# Altium integrated library AD Operational Amplifier.IntLib: 1114 symbols (part 6 of 13)
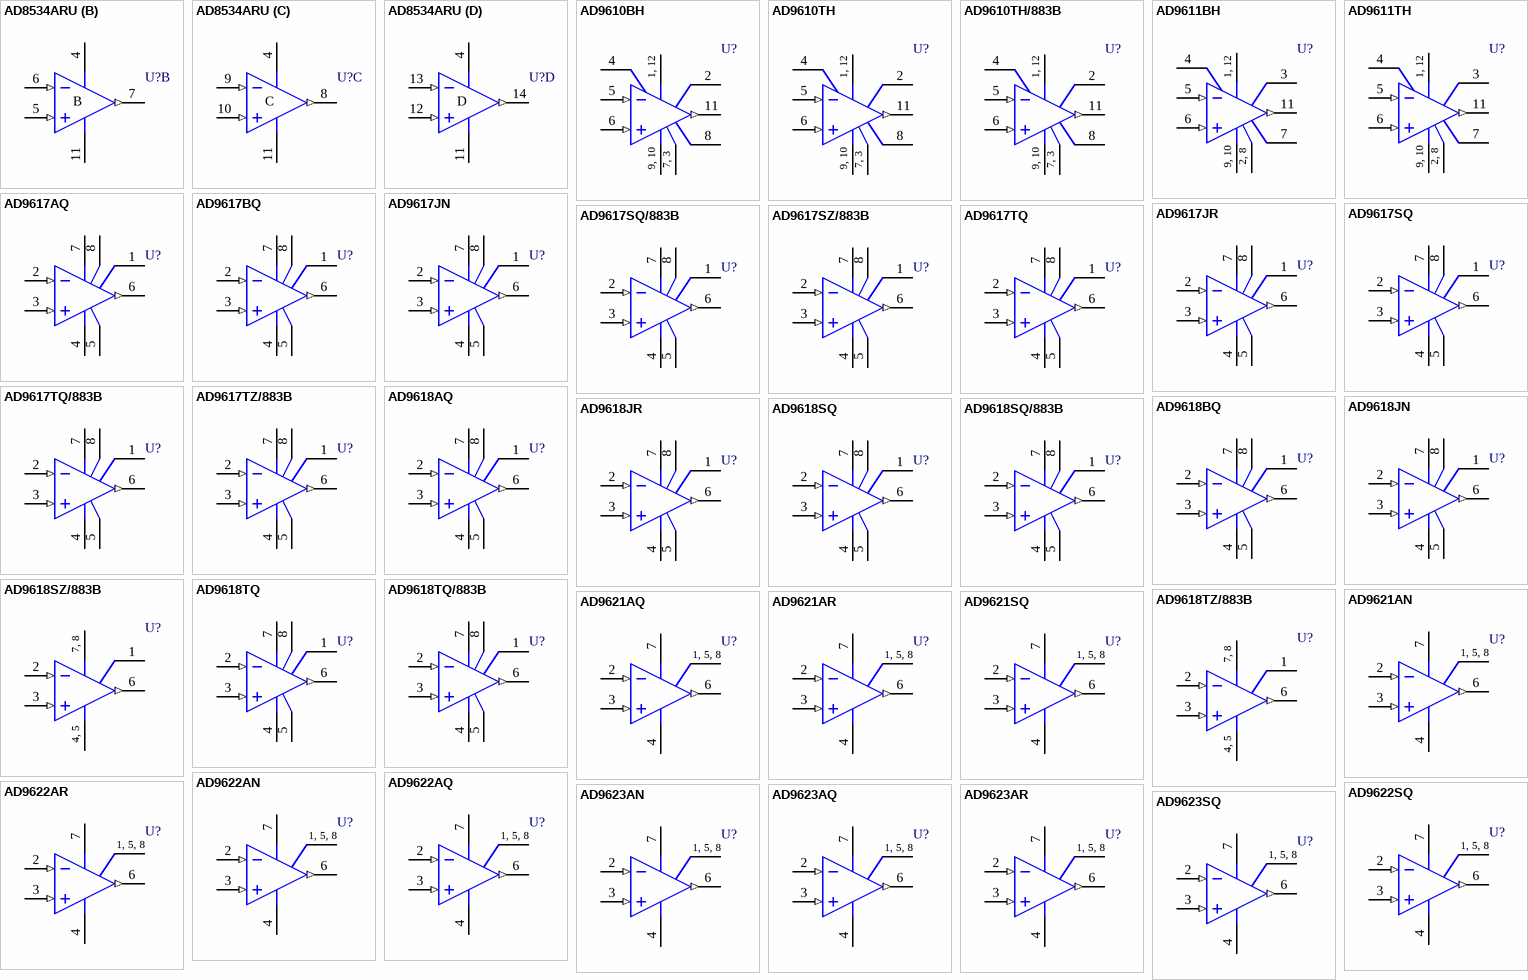
[diagram p51: symbols AD8534ARU to AD9623SQ]

## AD9617JR
designator U?
Low Distortion, Precision, Wide-Bandwidth Operational Amplifier; Revision 1: 10-Jul-2000: SIM Model Added.; Revision 2: 17-Jul-2002: Re-released for DXP Platform.; Package Information: Latest Revision: revC; Published: 8-Jun-2000; Datasheet: Designer's Reference Manual CD (REV. A 1996); Package Reference: R-8C; Publisher: Altium Limited
footprint R-8C (Small Outline; 8 Leads; Body Width 3.9 mm; Pitch 1.27 mm)
simulation model AD9617 (SUBCKT)
pins: 1 NC, 2 IN- (in), 3 IN+ (in), 4 V- (power), 5 V- (power), 6 OUT (out), 7 V+ (power), 8 V+ (power)

## AD9617SQ
designator U?
Low Distortion, Precision, Wide-Bandwidth Operational Amplifier; Revision 1: 10-Jul-2000: SIM Model Added.; Revision 2: 17-Jul-2002: Re-released for DXP Platform.; Package Information: Latest Revision: 1998; Published: 8-Jun-2000; Datasheet: Designer's Reference Manual CD (REV. A 1996); Package Reference: Q-8; Publisher: Altium Limited
footprint Q-8 (DIP; 8 Leads; Row Spacing 7.62 mm; Pitch 2.54 mm)
simulation model AD9617 (SUBCKT)
pins: 1 NC, 2 IN- (in), 3 IN+ (in), 4 V- (power), 5 V- (power), 6 OUT (out), 7 V+ (power), 8 V+ (power)

## AD9617SQ/883B
designator U?
Low Distortion, Precision, Wide-Bandwidth Operational Amplifier; Revision 1: 10-Jul-2000: SIM Model Added.; Revision 2: 17-Jul-2002: Re-released for DXP Platform.; Package Information: Latest Revision: 1998; Published: 8-Jun-2000; Datasheet: Designer's Reference Manual CD (REV. A 1996); Package Reference: Q-8; Publisher: Altium Limited
footprint Q-8 (DIP; 8 Leads; Row Spacing 7.62 mm; Pitch 2.54 mm)
simulation model AD9617 (SUBCKT)
pins: 1 NC, 2 IN- (in), 3 IN+ (in), 4 V- (power), 5 V- (power), 6 OUT (out), 7 V+ (power), 8 V+ (power)

## AD9617SZ/883B
designator U?
Low Distortion, Precision, Wide-Bandwidth Operational Amplifier; Revision 1: 10-Jul-2000: SIM Model Added.; Revision 2: 17-Jul-2002: Re-released for DXP Platform.; Published: 8-Jun-2000; Datasheet: Latest Revision: REV. A 1993; Package Reference: Z-8; Publisher: Altium Limited
footprint Z-8 (Small Outline; 8 Leads; Body Width 6.5 mm; Pitch 1.27 mm)
simulation model AD9617 (SUBCKT)
pins: 1 NC, 2 IN- (in), 3 IN+ (in), 4 V- (power), 5 V- (power), 6 OUT (out), 7 V+ (power), 8 V+ (power)

## AD9617TQ
designator U?
Low Distortion, Precision, Wide-Bandwidth Operational Amplifier; Revision 1: 10-Jul-2000: SIM Model Added.; Revision 2: 17-Jul-2002: Re-released for DXP Platform.; Package Information: Latest Revision: 1998; Published: 8-Jun-2000; Datasheet: Designer's Reference Manual CD (REV. A 1996); Package Reference: Q-8; Publisher: Altium Limited
footprint Q-8 (DIP; 8 Leads; Row Spacing 7.62 mm; Pitch 2.54 mm)
simulation model AD9617 (SUBCKT)
pins: 1 NC, 2 IN- (in), 3 IN+ (in), 4 V- (power), 5 V- (power), 6 OUT (out), 7 V+ (power), 8 V+ (power)

## AD9617TQ/883B
designator U?
Low Distortion, Precision, Wide-Bandwidth Operational Amplifier; Revision 1: 10-Jul-2000: SIM Model Added.; Revision 2: 17-Jul-2002: Re-released for DXP Platform.; Package Information: Latest Revision: 1998; Published: 8-Jun-2000; Datasheet: Designer's Reference Manual CD (REV. A 1996); Package Reference: Q-8; Publisher: Altium Limited
footprint Q-8 (DIP; 8 Leads; Row Spacing 7.62 mm; Pitch 2.54 mm)
simulation model AD9617 (SUBCKT)
pins: 1 NC, 2 IN- (in), 3 IN+ (in), 4 V- (power), 5 V- (power), 6 OUT (out), 7 V+ (power), 8 V+ (power)

## AD9617TZ/883B
designator U?
Low Distortion, Precision, Wide-Bandwidth Operational Amplifier; Revision 1: 10-Jul-2000: SIM Model Added.; Revision 2: 17-Jul-2002: Re-released for DXP Platform.; Published: 8-Jun-2000; Datasheet: Latest Revision: REV. A 1993; Package Reference: Z-8; Publisher: Altium Limited
footprint Z-8 (Small Outline; 8 Leads; Body Width 6.5 mm; Pitch 1.27 mm)
simulation model AD9617 (SUBCKT)
pins: 1 NC, 2 IN- (in), 3 IN+ (in), 4 V- (power), 5 V- (power), 6 OUT (out), 7 V+ (power), 8 V+ (power)

## AD9618AQ
designator U?
Low Distortion, Precision, Wide-Bandwidth Operational Amplifier; Revision 1: 10-Jul-2000: SIM Model Added.; Revision 2: 17-Jul-2002: Re-released for DXP Platform.; Package Information: Latest Revision: 1998; Published: 8-Jun-2000; Datasheet: Designer's Reference Manual CD (REV. A ); Package Reference: Q-8; Publisher: Altium Limited
footprint Q-8 (DIP; 8 Leads; Row Spacing 7.62 mm; Pitch 2.54 mm)
simulation model AD9618 (SUBCKT)
pins: 1 NC, 2 IN- (in), 3 IN+ (in), 4 V- (power), 5 V- (power), 6 OUT (out), 7 V+ (power), 8 V+ (power)

## AD9618BQ
designator U?
Low Distortion, Precision, Wide-Bandwidth Operational Amplifier; Revision 1: 10-Jul-2000: SIM Model Added.; Revision 2: 17-Jul-2002: Re-released for DXP Platform.; Package Information: Latest Revision: 1998; Published: 8-Jun-2000; Datasheet: Designer's Reference Manual CD (REV. A ); Package Reference: Q-8; Publisher: Altium Limited
footprint Q-8 (DIP; 8 Leads; Row Spacing 7.62 mm; Pitch 2.54 mm)
simulation model AD9618 (SUBCKT)
pins: 1 NC, 2 IN- (in), 3 IN+ (in), 4 V- (power), 5 V- (power), 6 OUT (out), 7 V+ (power), 8 V+ (power)

## AD9618JN
designator U?
Low Distortion, Precision, Wide-Bandwidth Operational Amplifier; Revision 1: 10-Jul-2000: SIM Model Added.; Revision 2: 17-Jul-2002: Re-released for DXP Platform.; Code - JEDEC: MO-001-AN; Published: 8-Jun-2000; Datasheet: Designer's Reference Manual CD (REV. A ); Package Reference: N-8_A; Publisher: Altium Limited
footprint N-8_A (DIP; 8 Leads; Row Spacing 7.62 mm; Pitch 2.54 mm)
simulation model AD9618 (SUBCKT)
pins: 1 NC, 2 IN- (in), 3 IN+ (in), 4 V- (power), 5 V- (power), 6 OUT (out), 7 V+ (power), 8 V+ (power)

## AD9618JR
designator U?
Low Distortion, Precision, Wide-Bandwidth Operational Amplifier; Revision 1: 10-Jul-2000: SIM Model Added.; Revision 2: 17-Jul-2002: Re-released for DXP Platform.; Package Information: Latest Revision: revC; Published: 8-Jun-2000; Datasheet: Designer's Reference Manual CD (REV. A ); Package Reference: R-8C; Publisher: Altium Limited
footprint R-8C (Small Outline; 8 Leads; Body Width 3.9 mm; Pitch 1.27 mm)
simulation model AD9618 (SUBCKT)
pins: 1 NC, 2 IN- (in), 3 IN+ (in), 4 V- (power), 5 V- (power), 6 OUT (out), 7 V+ (power), 8 V+ (power)

## AD9618SQ
designator U?
Low Distortion, Precision, Wide-Bandwidth Operational Amplifier; Revision 1: 10-Jul-2000: SIM Model Added.; Revision 2: 17-Jul-2002: Re-released for DXP Platform.; Package Information: Latest Revision: 1998; Published: 8-Jun-2000; Datasheet: Designer's Reference Manual CD (REV. A ); Package Reference: Q-8; Publisher: Altium Limited
footprint Q-8 (DIP; 8 Leads; Row Spacing 7.62 mm; Pitch 2.54 mm)
simulation model AD9618 (SUBCKT)
pins: 1 NC, 2 IN- (in), 3 IN+ (in), 4 V- (power), 5 V- (power), 6 OUT (out), 7 V+ (power), 8 V+ (power)

## AD9618SQ/883B
designator U?
Low Distortion, Precision, Wide-Bandwidth Operational Amplifier; Revision 1: 10-Jul-2000: SIM Model Added.; Revision 2: 17-Jul-2002: Re-released for DXP Platform.; Package Information: Latest Revision: 1998; Published: 8-Jun-2000; Datasheet: Designer's Reference Manual CD (REV. A ); Package Reference: Q-8; Publisher: Altium Limited
footprint Q-8 (DIP; 8 Leads; Row Spacing 7.62 mm; Pitch 2.54 mm)
simulation model AD9618 (SUBCKT)
pins: 1 NC, 2 IN- (in), 3 IN+ (in), 4 V- (power), 5 V- (power), 6 OUT (out), 7 V+ (power), 8 V+ (power)

## AD9618SZ/883B
designator U?
Low Distortion, Precision, Wide-Bandwidth Operational Amplifier; Revision 1: 10-Jul-2000: SIM Model Added.; Revision 2: 17-Jul-2002: Re-released for DXP Platform.; Published: 8-Jun-2000; Datasheet: Latest Revision: REV. A 1993; Package Reference: Z-8; Publisher: Altium Limited
footprint Z-8 (Small Outline; 8 Leads; Body Width 6.5 mm; Pitch 1.27 mm)
simulation model AD9618 (SUBCKT)
pins: 1 NC, 2 IN- (in), 3 IN+ (in), 4 V- (power), 5 V- (power), 6 OUT (out), 7 V+ (power), 8 V+ (power)
text: 7, 8; 4, 5

## AD9618TQ
designator U?
Low Distortion, Precision, Wide-Bandwidth Operational Amplifier; Revision 1: 10-Jul-2000: SIM Model Added.; Revision 2: 17-Jul-2002: Re-released for DXP Platform.; Package Information: Latest Revision: 1998; Published: 8-Jun-2000; Datasheet: Designer's Reference Manual CD (REV. A ); Package Reference: Q-8; Publisher: Altium Limited
footprint Q-8 (DIP; 8 Leads; Row Spacing 7.62 mm; Pitch 2.54 mm)
simulation model AD9618 (SUBCKT)
pins: 1 NC, 2 IN- (in), 3 IN+ (in), 4 V- (power), 5 V- (power), 6 OUT (out), 7 V+ (power), 8 V+ (power)

## AD9618TQ/883B
designator U?
Low Distortion, Precision, Wide-Bandwidth Operational Amplifier; Revision 1: 10-Jul-2000: SIM Model Added.; Revision 2: 17-Jul-2002: Re-released for DXP Platform.; Package Information: Latest Revision: 1998; Published: 8-Jun-2000; Datasheet: Designer's Reference Manual CD (REV. A ); Package Reference: Q-8; Publisher: Altium Limited
footprint Q-8 (DIP; 8 Leads; Row Spacing 7.62 mm; Pitch 2.54 mm)
simulation model AD9618 (SUBCKT)
pins: 1 NC, 2 IN- (in), 3 IN+ (in), 4 V- (power), 5 V- (power), 6 OUT (out), 7 V+ (power), 8 V+ (power)

## AD9618TZ/883B
designator U?
Low Distortion, Precision, Wide-Bandwidth Operational Amplifier; Revision 1: 10-Jul-2000: SIM Model Added.; Revision 2: 17-Jul-2002: Re-released for DXP Platform.; Published: 8-Jun-2000; Datasheet: Latest Revision: REV. A 1993; Package Reference: Z-8; Publisher: Altium Limited
footprint Z-8 (Small Outline; 8 Leads; Body Width 6.5 mm; Pitch 1.27 mm)
simulation model AD9618 (SUBCKT)
pins: 1 NC, 2 IN- (in), 3 IN+ (in), 4 V- (power), 5 V- (power), 6 OUT (out), 7 V+ (power), 8 V+ (power)
text: 7, 8; 4, 5

## AD9621AN
designator U?
Wideband Voltage Feedback Amplifier; Revision 1: 24-Aug-2001: SIM Model Removed.; Revision 2: 17-Jul-2002: Re-released for DXP Platform.; Package Information: Latest Revision: revA; Note: Pins 1, 5, and 8 are not connected.; Published: 8-Jun-2000; Datasheet: Latest Revision: REV. 0 1992; Package Reference: N-8; Publisher: Altium Limited
footprint N-8 (DIP; 8 Leads; Row Spacing 7.62 mm; Pitch 2.54 mm)
pins: 1 NC, 2 IN- (in), 3 IN+ (in), 4 V- (power), 5 NC, 6 OUT (out), 7 V+ (power), 8 NC
text: 1, 5, 8

## AD9621AQ
designator U?
Wideband Voltage Feedback Amplifier; Revision 1: 24-Aug-2001: SIM Model Removed.; Revision 2: 17-Jul-2002: Re-released for DXP Platform.; Package Information: Latest Revision: 1998; Note: Pins 1, 5, and 8 are not connected.; Published: 8-Jun-2000; Datasheet: Latest Revision: REV. 0 1992; Package Reference: Q-8; Publisher: Altium Limited
footprint Q-8 (DIP; 8 Leads; Row Spacing 7.62 mm; Pitch 2.54 mm)
pins: 1 NC, 2 IN- (in), 3 IN+ (in), 4 V- (power), 5 NC, 6 OUT (out), 7 V+ (power), 8 NC
text: 1, 5, 8

## AD9621AR
designator U?
Wideband Voltage Feedback Amplifier; Revision 1: 24-Aug-2001: SIM Model Removed.; Revision 2: 17-Jul-2002: Re-released for DXP Platform.; Package Information: Latest Revision: revC; Note: Pins 1, 5, and 8 are not connected.; Published: 8-Jun-2000; Datasheet: Latest Revision: REV. 0 1992; Package Reference: R-8C; Publisher: Altium Limited
footprint R-8C (Small Outline; 8 Leads; Body Width 3.9 mm; Pitch 1.27 mm)
pins: 1 NC, 2 IN- (in), 3 IN+ (in), 4 V- (power), 5 NC, 6 OUT (out), 7 V+ (power), 8 NC
text: 1, 5, 8

## AD9621SQ
designator U?
Wideband Voltage Feedback Amplifier; Revision 1: 24-Aug-2001: SIM Model Removed.; Revision 2: 17-Jul-2002: Re-released for DXP Platform.; Package Information: Latest Revision: 1998; Note: Pins 1, 5, and 8 are not connected.; Published: 8-Jun-2000; Datasheet: Latest Revision: REV. 0 1992; Package Reference: Q-8; Publisher: Altium Limited
footprint Q-8 (DIP; 8 Leads; Row Spacing 7.62 mm; Pitch 2.54 mm)
pins: 1 NC, 2 IN- (in), 3 IN+ (in), 4 V- (power), 5 NC, 6 OUT (out), 7 V+ (power), 8 NC
text: 1, 5, 8

## AD9622AN
designator U?
Wideband Voltage Feedback Amplifier; Revision 1: 24-Aug-2001: SIM Model Removed.; Revision 2: 17-Jul-2002: Re-released for DXP Platform.; Package Information: Latest Revision: 1992; Note: Pins 1, 5, and 8 are not connected.; Published: 8-Jun-2000; Datasheet: Latest Revision: REV. 0 1992; Package Reference: N-8_B; Publisher: Altium Limited
footprint N-8_B (DIP; 8 Leads; Row Spacing 7.62 mm; Pitch 2.54 mm)
pins: 1 NC, 2 IN- (in), 3 IN+ (in), 4 V- (power), 5 NC, 6 OUT (out), 7 V+ (power), 8 NC
text: 1, 5, 8

## AD9622AQ
designator U?
Wideband Voltage Feedback Amplifier; Revision 1: 24-Aug-2001: SIM Model Removed.; Revision 2: 17-Jul-2002: Re-released for DXP Platform.; Package Information: Latest Revision: 1998; Note: Pins 1, 5, and 8 are not connected.; Published: 8-Jun-2000; Datasheet: Latest Revision: REV. 0 1992; Package Reference: Q-8; Publisher: Altium Limited
footprint Q-8 (DIP; 8 Leads; Row Spacing 7.62 mm; Pitch 2.54 mm)
pins: 1 NC, 2 IN- (in), 3 IN+ (in), 4 V- (power), 5 NC, 6 OUT (out), 7 V+ (power), 8 NC
text: 1, 5, 8

## AD9622AR
designator U?
Wideband Voltage Feedback Amplifier; Revision 1: 24-Aug-2001: SIM Model Removed.; Revision 2: 17-Jul-2002: Re-released for DXP Platform.; Package Information: Latest Revision: revC; Note: Pins 1, 5, and 8 are not connected.; Published: 8-Jun-2000; Datasheet: Latest Revision: REV. 0 1992; Package Reference: R-8C; Publisher: Altium Limited
footprint R-8C (Small Outline; 8 Leads; Body Width 3.9 mm; Pitch 1.27 mm)
pins: 1 NC, 2 IN- (in), 3 IN+ (in), 4 V- (power), 5 NC, 6 OUT (out), 7 V+ (power), 8 NC
text: 1, 5, 8

## AD9622SQ
designator U?
Wideband Voltage Feedback Amplifier; Revision 1: 24-Aug-2001: SIM Model Removed.; Revision 2: 17-Jul-2002: Re-released for DXP Platform.; Package Information: Latest Revision: 1998; Note: Pins 1, 5, and 8 are not connected.; Published: 8-Jun-2000; Datasheet: Latest Revision: REV. 0 1992; Package Reference: Q-8; Publisher: Altium Limited
footprint Q-8 (DIP; 8 Leads; Row Spacing 7.62 mm; Pitch 2.54 mm)
pins: 1 NC, 2 IN- (in), 3 IN+ (in), 4 V- (power), 5 NC, 6 OUT (out), 7 V+ (power), 8 NC
text: 1, 5, 8

## AD9623AN
designator U?
Wideband Voltage Feedback Amplifier; Revision 1: 24-Aug-2001: SIM Model Removed.; Revision 2: 17-Jul-2002: Re-released for DXP Platform.; Package Information: Latest Revision: 1992; Note: Pins 1, 5, and 8 are not connected.; Published: 8-Jun-2000; Datasheet: Latest Revision: REV. 0 1992; Package Reference: N-8_B; Publisher: Altium Limited
footprint N-8_B (DIP; 8 Leads; Row Spacing 7.62 mm; Pitch 2.54 mm)
pins: 1 NC, 2 IN- (in), 3 IN+ (in), 4 V- (power), 5 NC, 6 OUT (out), 7 V+ (power), 8 NC
text: 1, 5, 8

## AD9623AQ
designator U?
Wideband Voltage Feedback Amplifier; Revision 1: 24-Aug-2001: SIM Model Removed.; Revision 2: 17-Jul-2002: Re-released for DXP Platform.; Package Information: Latest Revision: 1998; Note: Pins 1, 5, and 8 are not connected.; Published: 8-Jun-2000; Datasheet: Latest Revision: REV. 0 1992; Package Reference: Q-8; Publisher: Altium Limited
footprint Q-8 (DIP; 8 Leads; Row Spacing 7.62 mm; Pitch 2.54 mm)
pins: 1 NC, 2 IN- (in), 3 IN+ (in), 4 V- (power), 5 NC, 6 OUT (out), 7 V+ (power), 8 NC
text: 1, 5, 8

## AD9623AR
designator U?
Wideband Voltage Feedback Amplifier; Revision 1: 24-Aug-2001: SIM Model Removed.; Revision 2: 17-Jul-2002: Re-released for DXP Platform.; Package Information: Latest Revision: revC; Note: Pins 1, 5, and 8 are not connected.; Published: 8-Jun-2000; Datasheet: Latest Revision: REV. 0 1992; Package Reference: R-8C; Publisher: Altium Limited
footprint R-8C (Small Outline; 8 Leads; Body Width 3.9 mm; Pitch 1.27 mm)
pins: 1 NC, 2 IN- (in), 3 IN+ (in), 4 V- (power), 5 NC, 6 OUT (out), 7 V+ (power), 8 NC
text: 1, 5, 8

## AD9623SQ
designator U?
Wideband Voltage Feedback Amplifier; Revision 1: 24-Aug-2001: SIM Model Removed.; Revision 2: 17-Jul-2002: Re-released for DXP Platform.; Package Information: Latest Revision: 1998; Note: Pins 1, 5, and 8 are not connected.; Published: 8-Jun-2000; Datasheet: Latest Revision: REV. 0 1992; Package Reference: Q-8; Publisher: Altium Limited
footprint Q-8 (DIP; 8 Leads; Row Spacing 7.62 mm; Pitch 2.54 mm)
pins: 1 NC, 2 IN- (in), 3 IN+ (in), 4 V- (power), 5 NC, 6 OUT (out), 7 V+ (power), 8 NC
text: 1, 5, 8

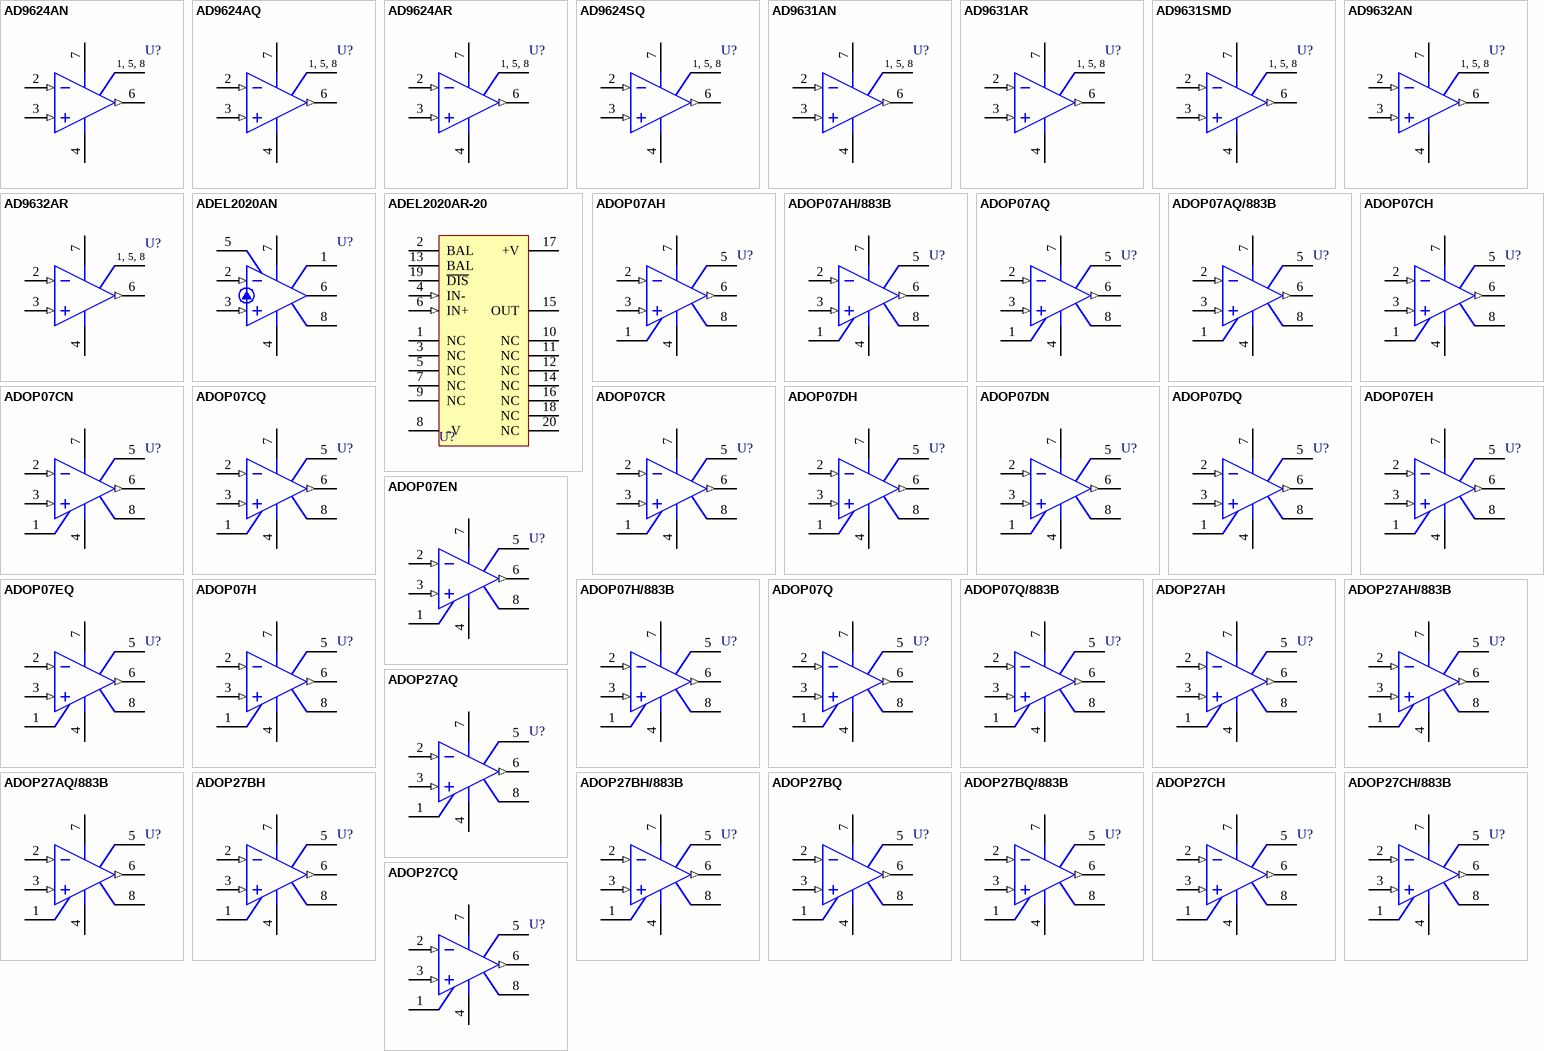
[diagram p17: symbols AD9624AN to ADOP27CQ]

## AD9624AN
designator U?
Wideband Voltage Feedback Amplifier; Revision 1: 24-Aug-2001: SIM Model Removed.; Revision 2: 17-Jul-2002: Re-released for DXP Platform.; Package Information: Latest Revision: 1992; Note: Pins 1, 5, and 8 are not connected.; Published: 8-Jun-2000; Datasheet: Latest Revision: REV. 0 1992; Package Reference: N-8_B; Publisher: Altium Limited
footprint N-8_B (DIP; 8 Leads; Row Spacing 7.62 mm; Pitch 2.54 mm)
pins: 1 NC, 2 IN- (in), 3 IN+ (in), 4 V- (power), 5 NC, 6 OUT (out), 7 V+ (power), 8 NC
text: 1, 5, 8

## AD9624AQ
designator U?
Wideband Voltage Feedback Amplifier; Revision 1: 24-Aug-2001: SIM Model Removed.; Revision 2: 17-Jul-2002: Re-released for DXP Platform.; Package Information: Latest Revision: 1998; Note: Pins 1, 5, and 8 are not connected.; Published: 8-Jun-2000; Datasheet: Latest Revision: REV. 0 1992; Package Reference: Q-8; Publisher: Altium Limited
footprint Q-8 (DIP; 8 Leads; Row Spacing 7.62 mm; Pitch 2.54 mm)
pins: 1 NC, 2 IN- (in), 3 IN+ (in), 4 V- (power), 5 NC, 6 OUT (out), 7 V+ (power), 8 NC
text: 1, 5, 8

## AD9624AR
designator U?
Wideband Voltage Feedback Amplifier; Revision 1: 24-Aug-2001: SIM Model Removed.; Revision 2: 17-Jul-2002: Re-released for DXP Platform.; Package Information: Latest Revision: revC; Note: Pins 1, 5, and 8 are not connected.; Published: 8-Jun-2000; Datasheet: Latest Revision: REV. 0 1992; Package Reference: R-8C; Publisher: Altium Limited
footprint R-8C (Small Outline; 8 Leads; Body Width 3.9 mm; Pitch 1.27 mm)
pins: 1 NC, 2 IN- (in), 3 IN+ (in), 4 V- (power), 5 NC, 6 OUT (out), 7 V+ (power), 8 NC
text: 1, 5, 8

## AD9624SQ
designator U?
Wideband Voltage Feedback Amplifier; Revision 1: 24-Aug-2001: SIM Model Removed.; Revision 2: 17-Jul-2002: Re-released for DXP Platform.; Package Information: Latest Revision: 1998; Note: Pins 1, 5, and 8 are not connected.; Published: 8-Jun-2000; Datasheet: Latest Revision: REV. 0 1992; Package Reference: Q-8; Publisher: Altium Limited
footprint Q-8 (DIP; 8 Leads; Row Spacing 7.62 mm; Pitch 2.54 mm)
pins: 1 NC, 2 IN- (in), 3 IN+ (in), 4 V- (power), 5 NC, 6 OUT (out), 7 V+ (power), 8 NC
text: 1, 5, 8

## AD9631AN
designator U?
Ultra-Low Distortion, Wide-Bandwidth Voltage Feedback Operational Amplifier; Revision 1: 10-Jul-2000: SIM Model Added.; Revision 2: 17-Jul-2002: Re-released for DXP Platform.; Note: Pins 1, 5, and 8 are not connected.; Code - JEDEC: MO-001-AN; Published: 8-Jun-2000; Datasheet: Designer's Reference Manual CD (REV. A); Package Reference: N-8_A; Publisher: Altium Limited
footprint N-8_A (DIP; 8 Leads; Row Spacing 7.62 mm; Pitch 2.54 mm)
simulation model AD9631AN (SUBCKT)
pins: 1 NC, 2 IN- (in), 3 IN+ (in), 4 V- (power), 5 NC, 6 OUT (out), 7 V+ (power), 8 NC
text: 1, 5, 8

## AD9631AR
designator U?
Ultra-Low Distortion, Wide-Bandwidth Voltage Feedback Operational Amplifier; Package Information: Latest Revision: 1998; Note: Pins 1, 5, and 8 are not connected.; Published: 8-Jun-2000; Revision: 17-Jul-2002: Re-released for DXP Platform.; Datasheet: Designer's Reference Manual CD (REV. A); Package Reference: R-8D; Publisher: Altium Limited
footprint R-8D (Small Outline; 8 Leads; Body Width 3.9 mm; Pitch 1.27 mm)
pins: 1 NC, 2 IN- (in), 3 IN+ (in), 4 V- (power), 5 NC, 6 OUT (out), 7 V+ (power), 8 NC
text: 1, 5, 8

## AD9631SMD
designator U?
Ultra-Low Distortion, Wide-Bandwidth Voltage Feedback Operational Amplifier; Package Information: Latest Revision: 1998; Note: Pins 1, 5, and 8 are not connected.; Published: 8-Jun-2000; Revision: 17-Jul-2002: Re-released for DXP Platform.; Datasheet: Designer's Reference Manual CD (REV. A); Package Reference: Q-8; Publisher: Altium Limited
footprint Q-8 (DIP; 8 Leads; Row Spacing 7.62 mm; Pitch 2.54 mm)
pins: 1 NC, 2 IN- (in), 3 IN+ (in), 4 V- (power), 5 NC, 6 OUT (out), 7 V+ (power), 8 NC
text: 1, 5, 8

## AD9632AN
designator U?
Ultra-Low Distortion, Wide-Bandwidth Voltage Feedback Operational Amplifier; Revision 1: 10-Jul-2000: SIM Model Added.; Revision 2: 17-Jul-2002: Re-released for DXP Platform.; Note: Pins 1, 5, and 8 are not connected.; Code - JEDEC: MO-001-AN; Published: 8-Jun-2000; Datasheet: Designer's Reference Manual CD (REV. A); Package Reference: N-8_A; Publisher: Altium Limited
footprint N-8_A (DIP; 8 Leads; Row Spacing 7.62 mm; Pitch 2.54 mm)
simulation model AD9632AN (SUBCKT)
pins: 1 NC, 2 IN- (in), 3 IN+ (in), 4 V- (power), 5 NC, 6 OUT (out), 7 V+ (power), 8 NC
text: 1, 5, 8

## AD9632AR
designator U?
Ultra-Low Distortion, Wide-Bandwidth Voltage Feedback Operational Amplifier; Package Information: Latest Revision: 1998; Note: Pins 1, 5, and 8 are not connected.; Published: 8-Jun-2000; Revision: 17-Jul-2002: Re-released for DXP Platform.; Datasheet: Designer's Reference Manual CD (REV. A); Package Reference: R-8D; Publisher: Altium Limited
footprint R-8D (Small Outline; 8 Leads; Body Width 3.9 mm; Pitch 1.27 mm)
pins: 1 NC, 2 IN- (in), 3 IN+ (in), 4 V- (power), 5 NC, 6 OUT (out), 7 V+ (power), 8 NC
text: 1, 5, 8

## ADEL2020AN
designator U?
Current Feedback Operational Amplifier; Package Information: Latest Revision: revA; Published: 8-Jun-2000; Revision: 17-Jul-2002: Re-released for DXP Platform.; Datasheet: Designer's Reference Manual CD (REV. A); Package Reference: N-8; Publisher: Altium Limited
footprint N-8 (DIP; 8 Leads; Row Spacing 7.62 mm; Pitch 2.54 mm)
pins: 1 BAL, 2 IN- (in), 3 IN+ (in), 4 V- (power), 5 BAL, 6 OUT (hiz), 7 V+ (power), 8 ~{DIS}

## ADEL2020AR-20
designator U?
Current Feedback Operational Amplifier; Note: Pins 1, 3, 5, 7, 9, 10, 11, 12, 14, 16, 18 and 20 are not connected.; Code - JEDEC: MS-013-AC; Code - IPC: SO20W; Published: 8-Jun-2000; Revision: 17-Jul-2002: Re-released for DXP Platform.; Datasheet: Designer's Reference Manual CD (REV. A); Package Reference: R-20; Publisher: Altium Limited
footprint R-20 (Small Outline; 20 Leads; Body Width 7.5 mm; Pitch 1.27 mm)
pins: 1 NC, 2 BAL, 3 NC, 4 IN- (in), 5 NC, 6 IN+ (in), 7 NC, 8 -V (power), 9 NC, 10 NC, 11 NC, 12 NC, 13 BAL, 14 NC, 15 OUT (hiz), 16 NC, 17 +V (power), 18 NC, 19 ~{DIS}, 20 NC

## ADOP07AH
designator U?
Ultra-Low Offset Voltage Operational Amplifier; Package Information: Latest Revision: 1990; Note: Pin 5 is not connected.; Published: 8-Jun-2000; Revision: 17-Jul-2002: Re-released for DXP Platform.; Datasheet: Amplifier Reference Manual (1992); Package Reference: H-08A; Publisher: Altium Limited
footprint H-08A (Can; 8 Leads; Pin Circle Dia. 5.08 mm; Lead Dia. 0.53 mm (max))
pins: 1 OS NULL, 2 IN- (in), 3 IN+ (in), 4 V- (power), 5 NC, 6 OUT (out), 7 V+ (power), 8 OS NULL

## ADOP07AH/883B
designator U?
Ultra-Low Offset Voltage Operational Amplifier; Package Information: Latest Revision: 1993; Note: Pin 5 is not connected.; Published: 8-Jun-2000; Revision: 17-Jul-2002: Re-released for DXP Platform.; Datasheet: Latest Revision: REV. C 1993; Package Reference: H-08A_D; Publisher: Altium Limited
footprint H-08A_D (Can; 8 Leads; Pin Circle Dia. 5.08 mm; Lead Dia. 0.48 mm (max))
pins: 1 OS NULL, 2 IN- (in), 3 IN+ (in), 4 V- (power), 5 NC, 6 OUT (out), 7 V+ (power), 8 OS NULL

## ADOP07AQ
designator U?
Ultra-Low Offset Voltage Operational Amplifier; Package Information: Latest Revision: 1998; Note: Pin 5 is not connected.; Published: 8-Jun-2000; Revision: 17-Jul-2002: Re-released for DXP Platform.; Datasheet: Amplifier Reference Manual (1992); Package Reference: Q-8; Publisher: Altium Limited
footprint Q-8 (DIP; 8 Leads; Row Spacing 7.62 mm; Pitch 2.54 mm)
pins: 1 NULL1, 2 IN- (in), 3 IN+ (in), 4 V- (power), 5 NC, 6 OUT (out), 7 V+ (power), 8 NULL2

## ADOP07AQ/883B
designator U?
Ultra-Low Offset Voltage Operational Amplifier; Note: Pin 5 is not connected.; Published: 8-Jun-2000; Revision: 17-Jul-2002: Re-released for DXP Platform.; Datasheet: Latest Revision: REV. C 1993; Package Reference: Q-8_B; Publisher: Altium Limited
footprint Q-8_B (DIP; 8 Leads; Row Spacing 7.62 mm; Pitch 2.54 mm)
pins: 1 NULL1, 2 IN- (in), 3 IN+ (in), 4 V- (power), 5 NC, 6 OUT (out), 7 V+ (power), 8 NULL2

## ADOP07CH
designator U?
Ultra-Low Offset Voltage Operational Amplifier; Package Information: Latest Revision: 1990; Note: Pin 5 is not connected.; Published: 8-Jun-2000; Revision: 17-Jul-2002: Re-released for DXP Platform.; Datasheet: Amplifier Reference Manual (1992); Package Reference: H-08A; Publisher: Altium Limited
footprint H-08A (Can; 8 Leads; Pin Circle Dia. 5.08 mm; Lead Dia. 0.53 mm (max))
pins: 1 OS NULL, 2 IN- (in), 3 IN+ (in), 4 V- (power), 5 NC, 6 OUT (out), 7 V+ (power), 8 OS NULL

## ADOP07CN
designator U?
Ultra-Low Offset Voltage Operational Amplifier; Note: Pin 5 is not connected.; Code - JEDEC: MO-001-AN; Published: 8-Jun-2000; Revision: 17-Jul-2002: Re-released for DXP Platform.; Datasheet: Amplifier Reference Manual (1992); Package Reference: N-8_A; Publisher: Altium Limited
footprint N-8_A (DIP; 8 Leads; Row Spacing 7.62 mm; Pitch 2.54 mm)
pins: 1 NULL1, 2 IN- (in), 3 IN+ (in), 4 V- (power), 5 NC, 6 OUT (out), 7 V+ (power), 8 NULL2

## ADOP07CQ
designator U?
Ultra-Low Offset Voltage Operational Amplifier; Package Information: Latest Revision: 1998; Note: Pin 5 is not connected.; Published: 8-Jun-2000; Revision: 17-Jul-2002: Re-released for DXP Platform.; Datasheet: Amplifier Reference Manual (1992); Package Reference: Q-8; Publisher: Altium Limited
footprint Q-8 (DIP; 8 Leads; Row Spacing 7.62 mm; Pitch 2.54 mm)
pins: 1 NULL1, 2 IN- (in), 3 IN+ (in), 4 V- (power), 5 NC, 6 OUT (out), 7 V+ (power), 8 NULL2

## ADOP07CR
designator U?
Ultra-Low Offset Voltage Operational Amplifier; Note: Pin 5 is not connected.; Code - JEDEC: MS-012-AA; Code - IPC: SO8; Published: 8-Jun-2000; Revision: 17-Jul-2002: Re-released for DXP Platform.; Datasheet: Amplifier Reference Manual (1992); Package Reference: R-8; Publisher: Altium Limited
footprint R-8 (Small Outline; 8 Leads; Body Width 3.9 mm; Pitch 1.27 mm)
pins: 1 NULL1, 2 IN- (in), 3 IN+ (in), 4 V- (power), 5 NC, 6 OUT (out), 7 V+ (power), 8 NULL2

## ADOP07DH
designator U?
Ultra-Low Offset Voltage Operational Amplifier; Package Information: Latest Revision: 1990; Note: Pin 5 is not connected.; Published: 8-Jun-2000; Revision: 17-Jul-2002: Re-released for DXP Platform.; Datasheet: Amplifier Reference Manual (1992); Package Reference: H-08A; Publisher: Altium Limited
footprint H-08A (Can; 8 Leads; Pin Circle Dia. 5.08 mm; Lead Dia. 0.53 mm (max))
pins: 1 OS NULL, 2 IN- (in), 3 IN+ (in), 4 V- (power), 5 NC, 6 OUT (out), 7 V+ (power), 8 OS NULL

## ADOP07DN
designator U?
Ultra-Low Offset Voltage Operational Amplifier; Note: Pin 5 is not connected.; Code - JEDEC: MO-001-AN; Published: 8-Jun-2000; Revision: 17-Jul-2002: Re-released for DXP Platform.; Datasheet: Amplifier Reference Manual (1992); Package Reference: N-8_A; Publisher: Altium Limited
footprint N-8_A (DIP; 8 Leads; Row Spacing 7.62 mm; Pitch 2.54 mm)
pins: 1 NULL1, 2 IN- (in), 3 IN+ (in), 4 V- (power), 5 NC, 6 OUT (out), 7 V+ (power), 8 NULL2

## ADOP07DQ
designator U?
Ultra-Low Offset Voltage Operational Amplifier; Package Information: Latest Revision: 1998; Note: Pin 5 is not connected.; Published: 8-Jun-2000; Revision: 17-Jul-2002: Re-released for DXP Platform.; Datasheet: Amplifier Reference Manual (1992); Package Reference: Q-8; Publisher: Altium Limited
footprint Q-8 (DIP; 8 Leads; Row Spacing 7.62 mm; Pitch 2.54 mm)
pins: 1 NULL1, 2 IN- (in), 3 IN+ (in), 4 V- (power), 5 NC, 6 OUT (out), 7 V+ (power), 8 NULL2

## ADOP07EH
designator U?
Ultra-Low Offset Voltage Operational Amplifier; Package Information: Latest Revision: 1990; Note: Pin 5 is not connected.; Published: 8-Jun-2000; Revision: 17-Jul-2002: Re-released for DXP Platform.; Datasheet: Amplifier Reference Manual (1992); Package Reference: H-08A; Publisher: Altium Limited
footprint H-08A (Can; 8 Leads; Pin Circle Dia. 5.08 mm; Lead Dia. 0.53 mm (max))
pins: 1 OS NULL, 2 IN- (in), 3 IN+ (in), 4 V- (power), 5 NC, 6 OUT (out), 7 V+ (power), 8 OS NULL

## ADOP07EN
designator U?
Ultra-Low Offset Voltage Operational Amplifier; Note: Pin 5 is not connected.; Code - JEDEC: MO-001-AN; Published: 8-Jun-2000; Revision: 17-Jul-2002: Re-released for DXP Platform.; Datasheet: Amplifier Reference Manual (1992); Package Reference: N-8_A; Publisher: Altium Limited
footprint N-8_A (DIP; 8 Leads; Row Spacing 7.62 mm; Pitch 2.54 mm)
pins: 1 NULL1, 2 IN- (in), 3 IN+ (in), 4 V- (power), 5 NC, 6 OUT (out), 7 V+ (power), 8 NULL2

## ADOP07EQ
designator U?
Ultra-Low Offset Voltage Operational Amplifier; Package Information: Latest Revision: 1998; Note: Pin 5 is not connected.; Published: 8-Jun-2000; Revision: 17-Jul-2002: Re-released for DXP Platform.; Datasheet: Amplifier Reference Manual (1992); Package Reference: Q-8; Publisher: Altium Limited
footprint Q-8 (DIP; 8 Leads; Row Spacing 7.62 mm; Pitch 2.54 mm)
pins: 1 NULL1, 2 IN- (in), 3 IN+ (in), 4 V- (power), 5 NC, 6 OUT (out), 7 V+ (power), 8 NULL2

## ADOP07H
designator U?
Ultra-Low Offset Voltage Operational Amplifier; Package Information: Latest Revision: 1990; Note: Pin 5 is not connected.; Published: 8-Jun-2000; Revision: 17-Jul-2002: Re-released for DXP Platform.; Datasheet: Amplifier Reference Manual (1992); Package Reference: H-08A; Publisher: Altium Limited
footprint H-08A (Can; 8 Leads; Pin Circle Dia. 5.08 mm; Lead Dia. 0.53 mm (max))
pins: 1 OS NULL, 2 IN- (in), 3 IN+ (in), 4 V- (power), 5 NC, 6 OUT (out), 7 V+ (power), 8 OS NULL

## ADOP07H/883B
designator U?
Ultra-Low Offset Voltage Operational Amplifier; Package Information: Latest Revision: 1993; Note: Pin 5 is not connected.; Published: 8-Jun-2000; Revision: 17-Jul-2002: Re-released for DXP Platform.; Datasheet: Latest Revision: REV. C 1993; Package Reference: H-08A_D; Publisher: Altium Limited
footprint H-08A_D (Can; 8 Leads; Pin Circle Dia. 5.08 mm; Lead Dia. 0.48 mm (max))
pins: 1 OS NULL, 2 IN- (in), 3 IN+ (in), 4 V- (power), 5 NC, 6 OUT (out), 7 V+ (power), 8 OS NULL

## ADOP07Q
designator U?
Ultra-Low Offset Voltage Operational Amplifier; Package Information: Latest Revision: 1998; Note: Pin 5 is not connected.; Published: 8-Jun-2000; Revision: 17-Jul-2002: Re-released for DXP Platform.; Datasheet: Amplifier Reference Manual (1992); Package Reference: Q-8; Publisher: Altium Limited
footprint Q-8 (DIP; 8 Leads; Row Spacing 7.62 mm; Pitch 2.54 mm)
pins: 1 NULL1, 2 IN- (in), 3 IN+ (in), 4 V- (power), 5 NC, 6 OUT (out), 7 V+ (power), 8 NULL2

## ADOP07Q/883B
designator U?
Ultra-Low Offset Voltage Operational Amplifier; Note: Pin 5 is not connected.; Published: 8-Jun-2000; Revision: 17-Jul-2002: Re-released for DXP Platform.; Datasheet: Latest Revision: REV. C 1993; Package Reference: Q-8_B; Publisher: Altium Limited
footprint Q-8_B (DIP; 8 Leads; Row Spacing 7.62 mm; Pitch 2.54 mm)
pins: 1 NULL1, 2 IN- (in), 3 IN+ (in), 4 V- (power), 5 NC, 6 OUT (out), 7 V+ (power), 8 NULL2

## ADOP27AH
designator U?
Ultra-Low Noise, Precision Operational Amplifier; Package Information: Latest Revision: 1990; Note: Pin 5 is not connected; Pin 4 connected to case.; Published: 8-Jun-2000; Revision: 17-Jul-2002: Re-released for DXP Platform.; Datasheet: Amplifier Reference Manual (1992); Package Reference: H-08A; Publisher: Altium Limited
footprint H-08A (Can; 8 Leads; Pin Circle Dia. 5.08 mm; Lead Dia. 0.53 mm (max))
pins: 1 OS NULL, 2 IN- (in), 3 IN+ (in), 4 V- (power), 5 NC, 6 OUT (out), 7 V+ (power), 8 OS NULL

## ADOP27AH/883B
designator U?
Ultra-Low Noise, Precision Operational Amplifier; Package Information: Latest Revision: 1993; Note: Pin 5 is not connected; Pin 4 connected to case.; Published: 8-Jun-2000; Revision: 17-Jul-2002: Re-released for DXP Platform.; Datasheet: Latest Revision: REV. C 1993; Package Reference: H-08A_D; Publisher: Altium Limited
footprint H-08A_D (Can; 8 Leads; Pin Circle Dia. 5.08 mm; Lead Dia. 0.48 mm (max))
pins: 1 OS NULL, 2 IN- (in), 3 IN+ (in), 4 V- (power), 5 NC, 6 OUT (out), 7 V+ (power), 8 OS NULL

## ADOP27AQ
designator U?
Ultra-Low Noise, Precision Operational Amplifier; Package Information: Latest Revision: 1998; Note: Pin 5 is not connected.; Published: 8-Jun-2000; Revision: 17-Jul-2002: Re-released for DXP Platform.; Datasheet: Amplifier Reference Manual (1992); Package Reference: Q-8; Publisher: Altium Limited
footprint Q-8 (DIP; 8 Leads; Row Spacing 7.62 mm; Pitch 2.54 mm)
pins: 1 NULL1, 2 IN- (in), 3 IN+ (in), 4 V- (power), 5 NC, 6 OUT (out), 7 V+ (power), 8 NULL2

## ADOP27AQ/883B
designator U?
Ultra-Low Noise, Precision Operational Amplifier; Note: Pin 5 is not connected.; Published: 8-Jun-2000; Revision: 17-Jul-2002: Re-released for DXP Platform.; Datasheet: Latest Revision: REV. C 1993; Package Reference: Q-8_B; Publisher: Altium Limited
footprint Q-8_B (DIP; 8 Leads; Row Spacing 7.62 mm; Pitch 2.54 mm)
pins: 1 NULL1, 2 IN- (in), 3 IN+ (in), 4 V- (power), 5 NC, 6 OUT (out), 7 V+ (power), 8 NULL2

## ADOP27BH
designator U?
Ultra-Low Noise, Precision Operational Amplifier; Package Information: Latest Revision: 1990; Note: Pin 5 is not connected; Pin 4 connected to case.; Published: 8-Jun-2000; Revision: 17-Jul-2002: Re-released for DXP Platform.; Datasheet: Amplifier Reference Manual (1992); Package Reference: H-08A; Publisher: Altium Limited
footprint H-08A (Can; 8 Leads; Pin Circle Dia. 5.08 mm; Lead Dia. 0.53 mm (max))
pins: 1 OS NULL, 2 IN- (in), 3 IN+ (in), 4 V- (power), 5 NC, 6 OUT (out), 7 V+ (power), 8 OS NULL

## ADOP27BH/883B
designator U?
Ultra-Low Noise, Precision Operational Amplifier; Package Information: Latest Revision: 1993; Note: Pin 5 is not connected; Pin 4 connected to case.; Published: 8-Jun-2000; Revision: 17-Jul-2002: Re-released for DXP Platform.; Datasheet: Latest Revision: REV. C 1993; Package Reference: H-08A_D; Publisher: Altium Limited
footprint H-08A_D (Can; 8 Leads; Pin Circle Dia. 5.08 mm; Lead Dia. 0.48 mm (max))
pins: 1 OS NULL, 2 IN- (in), 3 IN+ (in), 4 V- (power), 5 NC, 6 OUT (out), 7 V+ (power), 8 OS NULL

## ADOP27BQ
designator U?
Ultra-Low Noise, Precision Operational Amplifier; Package Information: Latest Revision: 1998; Note: Pin 5 is not connected.; Published: 8-Jun-2000; Revision: 17-Jul-2002: Re-released for DXP Platform.; Datasheet: Amplifier Reference Manual (1992); Package Reference: Q-8; Publisher: Altium Limited
footprint Q-8 (DIP; 8 Leads; Row Spacing 7.62 mm; Pitch 2.54 mm)
pins: 1 NULL1, 2 IN- (in), 3 IN+ (in), 4 V- (power), 5 NC, 6 OUT (out), 7 V+ (power), 8 NULL2

## ADOP27BQ/883B
designator U?
Ultra-Low Noise, Precision Operational Amplifier; Note: Pin 5 is not connected.; Published: 8-Jun-2000; Revision: 17-Jul-2002: Re-released for DXP Platform.; Datasheet: Latest Revision: REV. C 1993; Package Reference: Q-8_B; Publisher: Altium Limited
footprint Q-8_B (DIP; 8 Leads; Row Spacing 7.62 mm; Pitch 2.54 mm)
pins: 1 NULL1, 2 IN- (in), 3 IN+ (in), 4 V- (power), 5 NC, 6 OUT (out), 7 V+ (power), 8 NULL2

## ADOP27CH
designator U?
Ultra-Low Noise, Precision Operational Amplifier; Package Information: Latest Revision: 1990; Note: Pin 5 is not connected; Pin 4 connected to case.; Published: 8-Jun-2000; Revision: 17-Jul-2002: Re-released for DXP Platform.; Datasheet: Amplifier Reference Manual (1992); Package Reference: H-08A; Publisher: Altium Limited
footprint H-08A (Can; 8 Leads; Pin Circle Dia. 5.08 mm; Lead Dia. 0.53 mm (max))
pins: 1 OS NULL, 2 IN- (in), 3 IN+ (in), 4 V- (power), 5 NC, 6 OUT (out), 7 V+ (power), 8 OS NULL

## ADOP27CH/883B
designator U?
Ultra-Low Noise, Precision Operational Amplifier; Package Information: Latest Revision: 1993; Note: Pin 5 is not connected; Pin 4 connected to case.; Published: 8-Jun-2000; Revision: 17-Jul-2002: Re-released for DXP Platform.; Datasheet: Latest Revision: REV. C 1993; Package Reference: H-08A_D; Publisher: Altium Limited
footprint H-08A_D (Can; 8 Leads; Pin Circle Dia. 5.08 mm; Lead Dia. 0.48 mm (max))
pins: 1 OS NULL, 2 IN- (in), 3 IN+ (in), 4 V- (power), 5 NC, 6 OUT (out), 7 V+ (power), 8 OS NULL

## ADOP27CQ
designator U?
Ultra-Low Noise, Precision Operational Amplifier; Package Information: Latest Revision: 1998; Note: Pin 5 is not connected.; Published: 8-Jun-2000; Revision: 17-Jul-2002: Re-released for DXP Platform.; Datasheet: Amplifier Reference Manual (1992); Package Reference: Q-8; Publisher: Altium Limited
footprint Q-8 (DIP; 8 Leads; Row Spacing 7.62 mm; Pitch 2.54 mm)
pins: 1 NULL1, 2 IN- (in), 3 IN+ (in), 4 V- (power), 5 NC, 6 OUT (out), 7 V+ (power), 8 NULL2

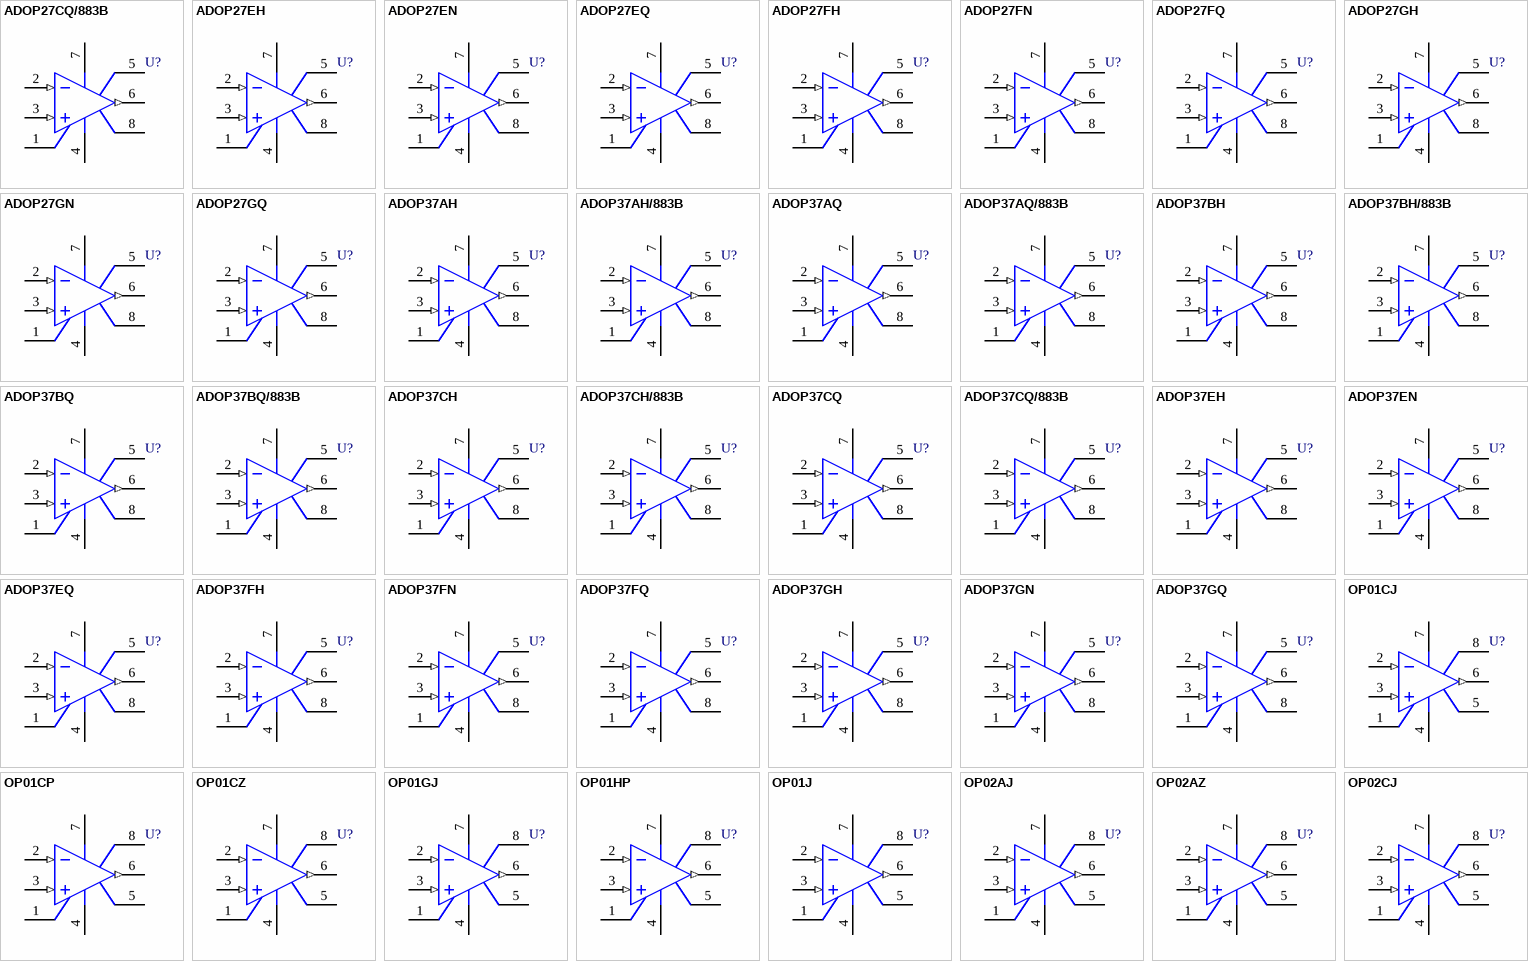
[diagram p18: symbols ADOP27CQ/883B to OP02CJ]

## ADOP27CQ/883B
designator U?
Ultra-Low Noise, Precision Operational Amplifier; Note: Pin 5 is not connected.; Published: 8-Jun-2000; Revision: 17-Jul-2002: Re-released for DXP Platform.; Datasheet: Latest Revision: REV. C 1993; Package Reference: Q-8_B; Publisher: Altium Limited
footprint Q-8_B (DIP; 8 Leads; Row Spacing 7.62 mm; Pitch 2.54 mm)
pins: 1 NULL1, 2 IN- (in), 3 IN+ (in), 4 V- (power), 5 NC, 6 OUT (out), 7 V+ (power), 8 NULL2

## ADOP27EH
designator U?
Ultra-Low Noise, Precision Operational Amplifier; Package Information: Latest Revision: 1990; Note: Pin 5 is not connected; Pin 4 connected to case.; Published: 8-Jun-2000; Revision: 17-Jul-2002: Re-released for DXP Platform.; Datasheet: Amplifier Reference Manual (1992); Package Reference: H-08A; Publisher: Altium Limited
footprint H-08A (Can; 8 Leads; Pin Circle Dia. 5.08 mm; Lead Dia. 0.53 mm (max))
pins: 1 OS NULL, 2 IN- (in), 3 IN+ (in), 4 V- (power), 5 NC, 6 OUT (out), 7 V+ (power), 8 OS NULL

## ADOP27EN
designator U?
Ultra-Low Noise, Precision Operational Amplifier; Note: Pin 5 is not connected.; Code - JEDEC: MO-001-AN; Published: 8-Jun-2000; Revision: 17-Jul-2002: Re-released for DXP Platform.; Datasheet: Amplifier Reference Manual (1992); Package Reference: N-8_A; Publisher: Altium Limited
footprint N-8_A (DIP; 8 Leads; Row Spacing 7.62 mm; Pitch 2.54 mm)
pins: 1 NULL1, 2 IN- (in), 3 IN+ (in), 4 V- (power), 5 NC, 6 OUT (out), 7 V+ (power), 8 NULL2

## ADOP27EQ
designator U?
Ultra-Low Noise, Precision Operational Amplifier; Package Information: Latest Revision: 1998; Note: Pin 5 is not connected.; Published: 8-Jun-2000; Revision: 17-Jul-2002: Re-released for DXP Platform.; Datasheet: Amplifier Reference Manual (1992); Package Reference: Q-8; Publisher: Altium Limited
footprint Q-8 (DIP; 8 Leads; Row Spacing 7.62 mm; Pitch 2.54 mm)
pins: 1 NULL1, 2 IN- (in), 3 IN+ (in), 4 V- (power), 5 NC, 6 OUT (out), 7 V+ (power), 8 NULL2

## ADOP27FH
designator U?
Ultra-Low Noise, Precision Operational Amplifier; Package Information: Latest Revision: 1990; Note: Pin 5 is not connected; Pin 4 connected to case.; Published: 8-Jun-2000; Revision: 17-Jul-2002: Re-released for DXP Platform.; Datasheet: Amplifier Reference Manual (1992); Package Reference: H-08A; Publisher: Altium Limited
footprint H-08A (Can; 8 Leads; Pin Circle Dia. 5.08 mm; Lead Dia. 0.53 mm (max))
pins: 1 OS NULL, 2 IN- (in), 3 IN+ (in), 4 V- (power), 5 NC, 6 OUT (out), 7 V+ (power), 8 OS NULL

## ADOP27FN
designator U?
Ultra-Low Noise, Precision Operational Amplifier; Note: Pin 5 is not connected.; Code - JEDEC: MO-001-AN; Published: 8-Jun-2000; Revision: 17-Jul-2002: Re-released for DXP Platform.; Datasheet: Amplifier Reference Manual (1992); Package Reference: N-8_A; Publisher: Altium Limited
footprint N-8_A (DIP; 8 Leads; Row Spacing 7.62 mm; Pitch 2.54 mm)
pins: 1 NULL1, 2 IN- (in), 3 IN+ (in), 4 V- (power), 5 NC, 6 OUT (out), 7 V+ (power), 8 NULL2

## ADOP27FQ
designator U?
Ultra-Low Noise, Precision Operational Amplifier; Package Information: Latest Revision: 1998; Note: Pin 5 is not connected.; Published: 8-Jun-2000; Revision: 17-Jul-2002: Re-released for DXP Platform.; Datasheet: Amplifier Reference Manual (1992); Package Reference: Q-8; Publisher: Altium Limited
footprint Q-8 (DIP; 8 Leads; Row Spacing 7.62 mm; Pitch 2.54 mm)
pins: 1 NULL1, 2 IN- (in), 3 IN+ (in), 4 V- (power), 5 NC, 6 OUT (out), 7 V+ (power), 8 NULL2

## ADOP27GH
designator U?
Ultra-Low Noise, Precision Operational Amplifier; Package Information: Latest Revision: 1990; Note: Pin 5 is not connected; Pin 4 connected to case.; Published: 8-Jun-2000; Revision: 17-Jul-2002: Re-released for DXP Platform.; Datasheet: Amplifier Reference Manual (1992); Package Reference: H-08A; Publisher: Altium Limited
footprint H-08A (Can; 8 Leads; Pin Circle Dia. 5.08 mm; Lead Dia. 0.53 mm (max))
pins: 1 OS NULL, 2 IN- (in), 3 IN+ (in), 4 V- (power), 5 NC, 6 OUT (out), 7 V+ (power), 8 OS NULL

## ADOP27GN
designator U?
Ultra-Low Noise, Precision Operational Amplifier; Note: Pin 5 is not connected.; Code - JEDEC: MO-001-AN; Published: 8-Jun-2000; Revision: 17-Jul-2002: Re-released for DXP Platform.; Datasheet: Amplifier Reference Manual (1992); Package Reference: N-8_A; Publisher: Altium Limited
footprint N-8_A (DIP; 8 Leads; Row Spacing 7.62 mm; Pitch 2.54 mm)
pins: 1 NULL1, 2 IN- (in), 3 IN+ (in), 4 V- (power), 5 NC, 6 OUT (out), 7 V+ (power), 8 NULL2

## ADOP27GQ
designator U?
Ultra-Low Noise, Precision Operational Amplifier; Package Information: Latest Revision: 1998; Note: Pin 5 is not connected.; Published: 8-Jun-2000; Revision: 17-Jul-2002: Re-released for DXP Platform.; Datasheet: Amplifier Reference Manual (1992); Package Reference: Q-8; Publisher: Altium Limited
footprint Q-8 (DIP; 8 Leads; Row Spacing 7.62 mm; Pitch 2.54 mm)
pins: 1 NULL1, 2 IN- (in), 3 IN+ (in), 4 V- (power), 5 NC, 6 OUT (out), 7 V+ (power), 8 NULL2

## ADOP37AH
designator U?
Ultra-Low Noise, High-Speed, Precision Operational Amplifier (Avcl >= 5); Package Information: Latest Revision: 1993; Note: Pin 5 is not connected; Pin 4 connected to case.; Published: 8-Jun-2000; Revision: 17-Jul-2002: Re-released for DXP Platform.; Datasheet: Latest Revision: REV.C 1993; Package Reference: H-08A_D; Publisher: Altium Limited
footprint H-08A_D (Can; 8 Leads; Pin Circle Dia. 5.08 mm; Lead Dia. 0.48 mm (max))
pins: 1 OS NULL, 2 IN- (in), 3 IN+ (in), 4 V- (power), 5 NC, 6 OUT (out), 7 V+ (power), 8 OS NULL

## ADOP37AH/883B
designator U?
Ultra-Low Noise, High-Speed, Precision Operational Amplifier (Avcl >= 5); Package Information: Latest Revision: 1993; Note: Pin 5 is not connected; Pin 4 connected to case.; Published: 8-Jun-2000; Revision: 17-Jul-2002: Re-released for DXP Platform.; Datasheet: Latest Revision: REV.C 1993; Package Reference: H-08A_D; Publisher: Altium Limited
footprint H-08A_D (Can; 8 Leads; Pin Circle Dia. 5.08 mm; Lead Dia. 0.48 mm (max))
pins: 1 OS NULL, 2 IN- (in), 3 IN+ (in), 4 V- (power), 5 NC, 6 OUT (out), 7 V+ (power), 8 OS NULL

## ADOP37AQ
designator U?
Ultra-Low Noise, High-Speed, Precision Operational Amplifier (Avcl >= 5); Package Information: Latest Revision: 1998; Note: Pin 5 is not connected.; Published: 8-Jun-2000; Revision: 17-Jul-2002: Re-released for DXP Platform.; Datasheet: Amplifier Reference Manual (1992); Package Reference: Q-8; Publisher: Altium Limited
footprint Q-8 (DIP; 8 Leads; Row Spacing 7.62 mm; Pitch 2.54 mm)
pins: 1 NULL1, 2 IN- (in), 3 IN+ (in), 4 V- (power), 5 NC, 6 OUT (out), 7 V+ (power), 8 NULL2

## ADOP37AQ/883B
designator U?
Ultra-Low Noise, High-Speed, Precision Operational Amplifier (Avcl >= 5); Package Information: Latest Revision: 1998; Note: Pin 5 is not connected.; Published: 8-Jun-2000; Revision: 17-Jul-2002: Re-released for DXP Platform.; Datasheet: Latest Revision: REV.C 1993; Package Reference: Q-8; Publisher: Altium Limited
footprint Q-8 (DIP; 8 Leads; Row Spacing 7.62 mm; Pitch 2.54 mm)
pins: 1 NULL1, 2 IN- (in), 3 IN+ (in), 4 V- (power), 5 NC, 6 OUT (out), 7 V+ (power), 8 NULL2

## ADOP37BH
designator U?
Ultra-Low Noise, High-Speed, Precision Operational Amplifier (Avcl >= 5); Package Information: Latest Revision: 1993; Note: Pin 5 is not connected; Pin 4 connected to case.; Published: 8-Jun-2000; Revision: 17-Jul-2002: Re-released for DXP Platform.; Datasheet: Latest Revision: REV.C 1993; Package Reference: H-08A_D; Publisher: Altium Limited
footprint H-08A_D (Can; 8 Leads; Pin Circle Dia. 5.08 mm; Lead Dia. 0.48 mm (max))
pins: 1 OS NULL, 2 IN- (in), 3 IN+ (in), 4 V- (power), 5 NC, 6 OUT (out), 7 V+ (power), 8 OS NULL

## ADOP37BH/883B
designator U?
Ultra-Low Noise, High-Speed, Precision Operational Amplifier (Avcl >= 5); Package Information: Latest Revision: 1993; Note: Pin 5 is not connected; Pin 4 connected to case.; Published: 8-Jun-2000; Revision: 17-Jul-2002: Re-released for DXP Platform.; Datasheet: Latest Revision: REV.C 1993; Package Reference: H-08A_D; Publisher: Altium Limited
footprint H-08A_D (Can; 8 Leads; Pin Circle Dia. 5.08 mm; Lead Dia. 0.48 mm (max))
pins: 1 OS NULL, 2 IN- (in), 3 IN+ (in), 4 V- (power), 5 NC, 6 OUT (out), 7 V+ (power), 8 OS NULL

## ADOP37BQ
designator U?
Ultra-Low Noise, High-Speed, Precision Operational Amplifier (Avcl >= 5); Package Information: Latest Revision: 1998; Note: Pin 5 is not connected.; Published: 8-Jun-2000; Revision: 17-Jul-2002: Re-released for DXP Platform.; Datasheet: Amplifier Reference Manual (1992); Package Reference: Q-8; Publisher: Altium Limited
footprint Q-8 (DIP; 8 Leads; Row Spacing 7.62 mm; Pitch 2.54 mm)
pins: 1 NULL1, 2 IN- (in), 3 IN+ (in), 4 V- (power), 5 NC, 6 OUT (out), 7 V+ (power), 8 NULL2

## ADOP37BQ/883B
designator U?
Ultra-Low Noise, High-Speed, Precision Operational Amplifier (Avcl >= 5); Package Information: Latest Revision: 1998; Note: Pin 5 is not connected.; Published: 8-Jun-2000; Revision: 17-Jul-2002: Re-released for DXP Platform.; Datasheet: Latest Revision: REV.C 1993; Package Reference: Q-8; Publisher: Altium Limited
footprint Q-8 (DIP; 8 Leads; Row Spacing 7.62 mm; Pitch 2.54 mm)
pins: 1 NULL1, 2 IN- (in), 3 IN+ (in), 4 V- (power), 5 NC, 6 OUT (out), 7 V+ (power), 8 NULL2

## ADOP37CH
designator U?
Ultra-Low Noise, High-Speed, Precision Operational Amplifier (Avcl >= 5); Package Information: Latest Revision: 1993; Note: Pin 5 is not connected; Pin 4 connected to case.; Published: 8-Jun-2000; Revision: 17-Jul-2002: Re-released for DXP Platform.; Datasheet: Latest Revision: REV.C 1993; Package Reference: H-08A_D; Publisher: Altium Limited
footprint H-08A_D (Can; 8 Leads; Pin Circle Dia. 5.08 mm; Lead Dia. 0.48 mm (max))
pins: 1 OS NULL, 2 IN- (in), 3 IN+ (in), 4 V- (power), 5 NC, 6 OUT (out), 7 V+ (power), 8 OS NULL

## ADOP37CH/883B
designator U?
Ultra-Low Noise, High-Speed, Precision Operational Amplifier (Avcl >= 5); Package Information: Latest Revision: 1993; Note: Pin 5 is not connected; Pin 4 connected to case.; Published: 8-Jun-2000; Revision: 17-Jul-2002: Re-released for DXP Platform.; Datasheet: Latest Revision: REV.C 1993; Package Reference: H-08A_D; Publisher: Altium Limited
footprint H-08A_D (Can; 8 Leads; Pin Circle Dia. 5.08 mm; Lead Dia. 0.48 mm (max))
pins: 1 OS NULL, 2 IN- (in), 3 IN+ (in), 4 V- (power), 5 NC, 6 OUT (out), 7 V+ (power), 8 OS NULL

## ADOP37CQ
designator U?
Ultra-Low Noise, High-Speed, Precision Operational Amplifier (Avcl >= 5); Package Information: Latest Revision: 1998; Note: Pin 5 is not connected.; Published: 8-Jun-2000; Revision: 17-Jul-2002: Re-released for DXP Platform.; Datasheet: Amplifier Reference Manual (1992); Package Reference: Q-8; Publisher: Altium Limited
footprint Q-8 (DIP; 8 Leads; Row Spacing 7.62 mm; Pitch 2.54 mm)
pins: 1 NULL1, 2 IN- (in), 3 IN+ (in), 4 V- (power), 5 NC, 6 OUT (out), 7 V+ (power), 8 NULL2

## ADOP37CQ/883B
designator U?
Ultra-Low Noise, High-Speed, Precision Operational Amplifier (Avcl >= 5); Package Information: Latest Revision: 1998; Note: Pin 5 is not connected.; Published: 8-Jun-2000; Revision: 17-Jul-2002: Re-released for DXP Platform.; Datasheet: Latest Revision: REV.C 1993; Package Reference: Q-8; Publisher: Altium Limited
footprint Q-8 (DIP; 8 Leads; Row Spacing 7.62 mm; Pitch 2.54 mm)
pins: 1 NULL1, 2 IN- (in), 3 IN+ (in), 4 V- (power), 5 NC, 6 OUT (out), 7 V+ (power), 8 NULL2

## ADOP37EH
designator U?
Ultra-Low Noise, High-Speed, Precision Operational Amplifier (Avcl >= 5); Package Information: Latest Revision: 1993; Note: Pin 5 is not connected; Pin 4 connected to case.; Published: 8-Jun-2000; Revision: 17-Jul-2002: Re-released for DXP Platform.; Datasheet: Latest Revision: REV.C 1993; Package Reference: H-08A_D; Publisher: Altium Limited
footprint H-08A_D (Can; 8 Leads; Pin Circle Dia. 5.08 mm; Lead Dia. 0.48 mm (max))
pins: 1 OS NULL, 2 IN- (in), 3 IN+ (in), 4 V- (power), 5 NC, 6 OUT (out), 7 V+ (power), 8 OS NULL

## ADOP37EN
designator U?
Ultra-Low Noise, High-Speed, Precision Operational Amplifier (Avcl >= 5); Note: Pin 5 is not connected; Pin 4 connected to case.; Code - JEDEC: MO-001-AN; Published: 8-Jun-2000; Revision: 17-Jul-2002: Re-released for DXP Platform.; Datasheet: Amplifier Reference Manual (1992); Package Reference: N-8_A; Publisher: Altium Limited
footprint N-8_A (DIP; 8 Leads; Row Spacing 7.62 mm; Pitch 2.54 mm)
pins: 1 NULL1, 2 IN- (in), 3 IN+ (in), 4 V- (power), 5 NC, 6 OUT (out), 7 V+ (power), 8 NULL2

## ADOP37EQ
designator U?
Ultra-Low Noise, High-Speed, Precision Operational Amplifier (Avcl >= 5); Package Information: Latest Revision: 1998; Note: Pin 5 is not connected; Pin 4 connected to case.; Published: 8-Jun-2000; Revision: 17-Jul-2002: Re-released for DXP Platform.; Datasheet: Amplifier Reference Manual (1992); Package Reference: Q-8; Publisher: Altium Limited
footprint Q-8 (DIP; 8 Leads; Row Spacing 7.62 mm; Pitch 2.54 mm)
pins: 1 NULL1, 2 IN- (in), 3 IN+ (in), 4 V- (power), 5 NC, 6 OUT (out), 7 V+ (power), 8 NULL2

## ADOP37FH
designator U?
Ultra-Low Noise, High-Speed, Precision Operational Amplifier (Avcl >= 5); Package Information: Latest Revision: 1993; Note: Pin 5 is not connected; Pin 4 connected to case.; Published: 8-Jun-2000; Revision: 17-Jul-2002: Re-released for DXP Platform.; Datasheet: Latest Revision: REV.C 1993; Package Reference: H-08A_D; Publisher: Altium Limited
footprint H-08A_D (Can; 8 Leads; Pin Circle Dia. 5.08 mm; Lead Dia. 0.48 mm (max))
pins: 1 OS NULL, 2 IN- (in), 3 IN+ (in), 4 V- (power), 5 NC, 6 OUT (out), 7 V+ (power), 8 OS NULL

## ADOP37FN
designator U?
Ultra-Low Noise, High-Speed, Precision Operational Amplifier (Avcl >= 5); Note: Pin 5 is not connected; Pin 4 connected to case.; Code - JEDEC: MO-001-AN; Published: 8-Jun-2000; Revision: 17-Jul-2002: Re-released for DXP Platform.; Datasheet: Amplifier Reference Manual (1992); Package Reference: N-8_A; Publisher: Altium Limited
footprint N-8_A (DIP; 8 Leads; Row Spacing 7.62 mm; Pitch 2.54 mm)
pins: 1 NULL1, 2 IN- (in), 3 IN+ (in), 4 V- (power), 5 NC, 6 OUT (out), 7 V+ (power), 8 NULL2